# Altium schematic symbol library DIODE_TRANS_UNI_2A_1K_3K_4K_5K.Schlib: 1 symbol
Pins are listed as number, name and electrical type; pins without a type are passive.

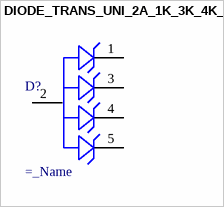
[diagram p0: symbol DIODE_TRANS_UNI_2A_1K_3K_4K_5K]

## DIODE_TRANS_UNI_2A_1K_3K_4K_5K
designator D?  (value not drawn)
=description; Value: =_Name
pins: 1 IO1, 2 GND, 3 IO2, 4 IO3, 5 IO4